# Altium footprint library dev.PcbLib: 112 footprints (part 4 of 7)
Each footprint in its own frame and in the unit in brackets; x right, y up, seen from the top. Pads: shape width x height; smd on the part's side, far side on the other; paste and mask are expansions set on the pad; w line width, h text height; cw(c..) or ccw(c..) is an arc to the next point about the centre after c.
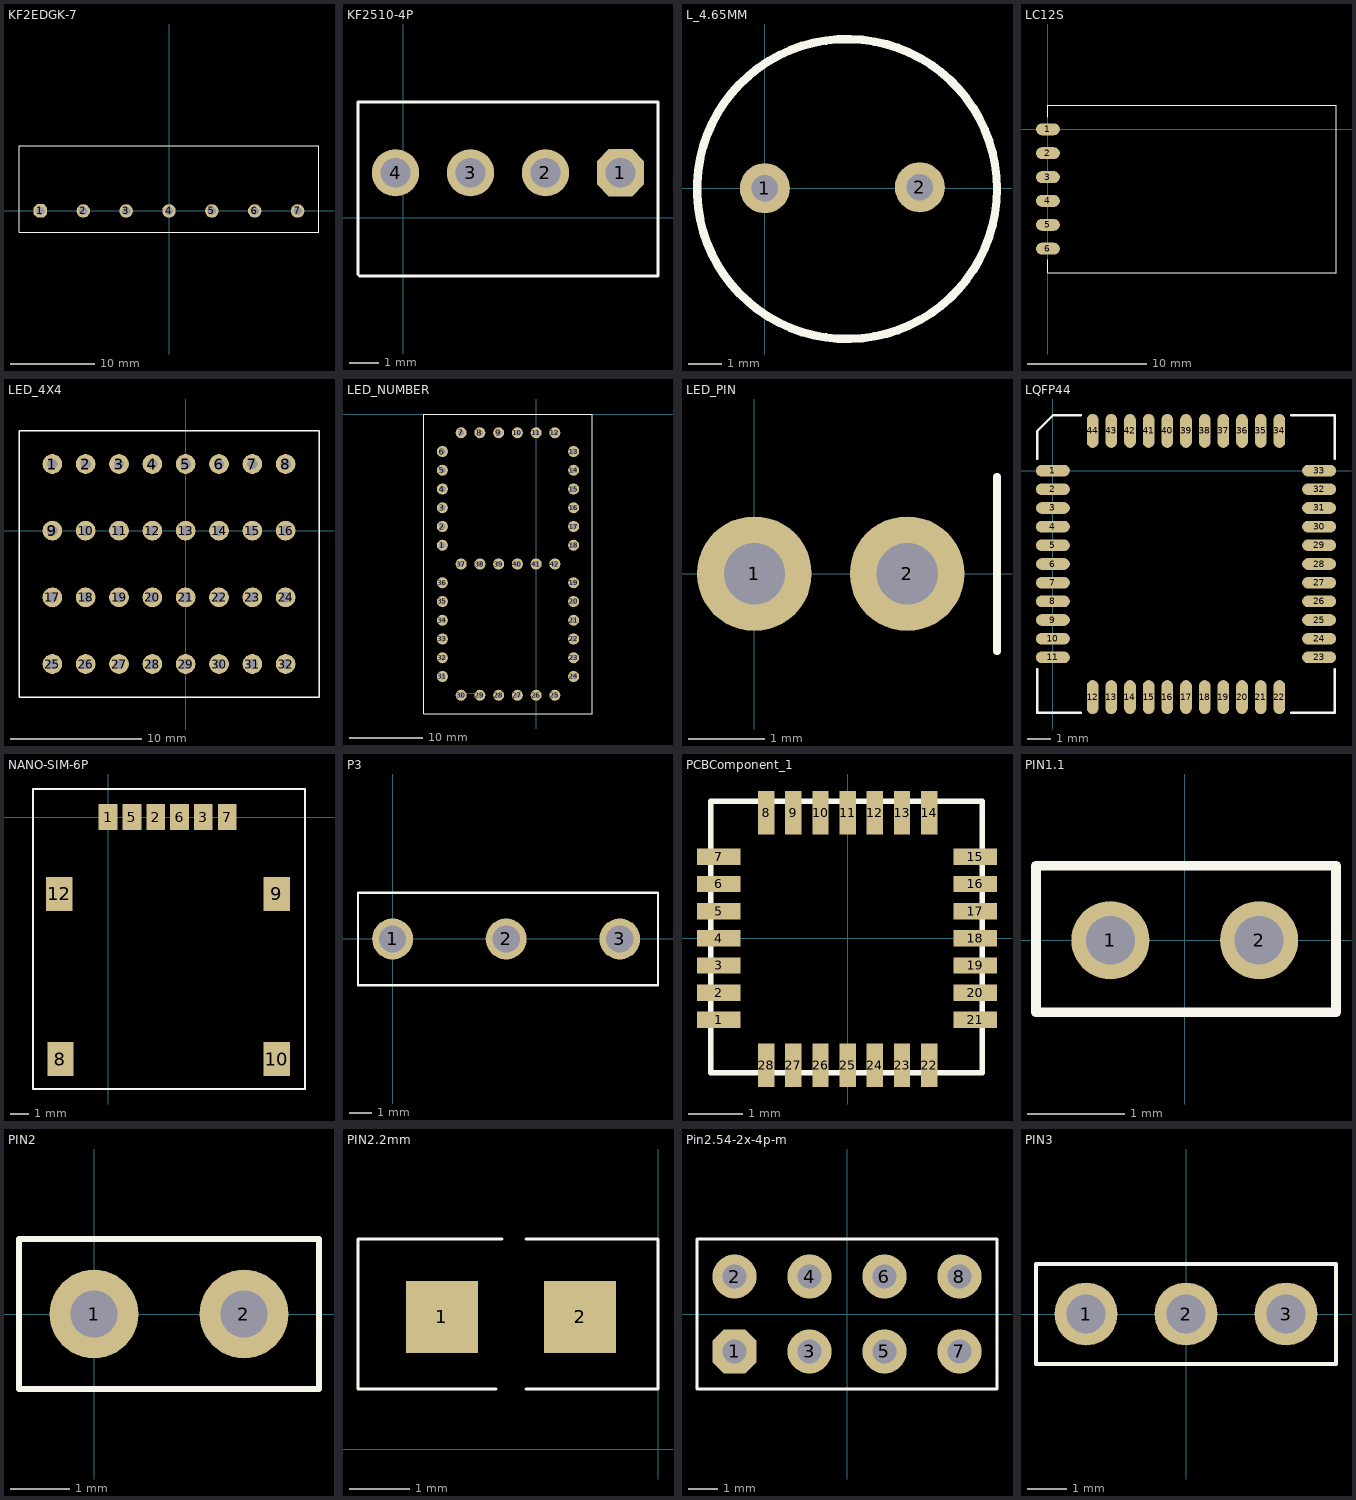
[diagram p3: the footprints below, top view; thin cyan lines are the x and y axes]

## KF2EDGK-7 [mm]
pads (7):
  oct 1.6x1.6 hole 1: 1(-15.24,0)
  round 1.6 hole 1: 2(-10.16,0) 3(-5.08,0) 4(0,0) 5(5.08,0) 6(10.16,0) 7(15.24,0)
Top Overlay:
  lines w0.1: -17.78,-2.54 17.78,-2.54 17.78,7.75 -17.78,7.75 -17.78,-2.54

## KF2510-4P [mm]
pads (4):
  oct 1.6x1.6 hole 1: 1(7.366,1.524)
  round 1.6 hole 1: 2(4.826,1.524) 3(2.286,1.524) 4(-0.254,1.524)
Top Overlay:
  lines w0.1: -1.524,-1.92 -1.524,3.924 8.636,3.924 8.636,-1.976 -1.468,-1.976

## L_4.65MM [mm]
pads (2):
  round 1.5 hole 0.8: 1(0,0) 2(4.65,0.025)
Top Overlay:
  circle w0.254: c2.464,-0.025 r4.5

## LC12S [mm]
pads (6):
  oval 2x1 smd: 1(0,0) 2(0,-2) 3(0,-4) 4(0,-6) 5(0,-8) 6(0,-10)
Top Overlay:
  lines w0.1: 0,-10.922 0,-12 24.13,-12 24.13,2 0,2 0,1.016

## LED_4X4 [mm]
pads (32):
  round 1.5 hole 0.8: 1(-10.16,5.08) 2(-7.62,5.08) 3(-5.08,5.08) 4(-2.54,5.08) 5(0,5.08) 6(2.54,5.08) 7(5.08,5.08) 8(7.62,5.08) 9(-10.16,0) 10(-7.62,0) 11(-5.08,0) 12(-2.54,0) 13(0,0) 14(2.54,0) 15(5.08,0) 16(7.62,0) 17(-10.16,-5.08) 18(-7.62,-5.08) 19(-5.08,-5.08) 20(-2.54,-5.08) 21(0,-5.08) 22(2.54,-5.08) 23(5.08,-5.08) 24(7.62,-5.08) 25(-10.16,-10.16) 26(-7.62,-10.16) 27(-5.08,-10.16) 28(-2.54,-10.16) 29(0,-10.16) 30(2.54,-10.16) 31(5.08,-10.16) 32(7.62,-10.16)
Top Overlay:
  lines w0.1: -12.7,-12.7 -12.7,7.62 10.16,7.62 10.16,-12.7 -12.7,-12.7

## LED_NUMBER [mm]
pads (42):
  round 1.5 hole 0.8: 1(-12.7,-17.78) 2(-12.7,-15.24) 3(-12.7,-12.7) 4(-12.7,-10.16) 5(-12.7,-7.62) 6(-12.7,-5.08) 7(-10.16,-2.54) 8(-7.62,-2.54) 9(-5.08,-2.54) 10(-2.54,-2.54) 11(0,-2.54) 12(2.54,-2.54) 13(5.08,-5.08) 14(5.08,-7.62) 15(5.08,-10.16) 16(5.08,-12.7) 17(5.08,-15.24) 18(5.08,-17.78) 19(5.08,-22.86) 20(5.08,-25.4) 21(5.08,-27.94) 22(5.08,-30.48) 23(5.08,-33.02) 24(5.08,-35.56) 25(2.54,-38.1) 26(0,-38.1) 27(-2.54,-38.1) 28(-5.08,-38.1) 29(-7.62,-38.1) 30(-10.16,-38.1) 31(-12.7,-35.56) 32(-12.7,-33.02) 33(-12.7,-30.48) 34(-12.7,-27.94) 35(-12.7,-25.4) 36(-12.7,-22.86) 37(-10.16,-20.32) 38(-7.62,-20.32) 39(-5.08,-20.32) 40(-2.54,-20.32) 41(0,-20.32) 42(2.54,-20.32)
Bottom Layer:
  lines w0.1: -10.033,-37.846 -7.62,-37.846
Top Overlay:
  lines w0.1: -15.24,-40.64 -15.24,0 7.62,0 7.62,-40.64 -15.24,-40.64

## LED_PIN [mm]
pads (2):
  round 1.5 hole 0.8: 1(0,0) 2(2,0)
Top Overlay:
  lines w0.1: 3.175,-1.016 3.175,1.27

## LQFP44 [mm]
pads (44):
  oval 1.45x0.5 smd: 1(0,0) 2(0,-0.8) 3(0,-1.6) 4(0,-2.4) 5(0,-3.2) 6(0,-4) 7(0,-4.8) 8(0,-5.6) 9(0,-6.4) 10(0,-7.2) 11(0,-8) 23(11.4,-8) 24(11.4,-7.2) 25(11.4,-6.4) 26(11.4,-5.6) 27(11.4,-4.8) 28(11.4,-4) 29(11.4,-3.2) 30(11.4,-2.4) 31(11.4,-1.6) 32(11.4,-0.8) 33(11.4,0)
  oval 0.5x1.45 smd: 12(1.7,-9.7) 13(2.5,-9.7) 14(3.3,-9.7) 15(4.1,-9.7) 16(4.9,-9.7) 17(5.7,-9.7) 18(6.5,-9.7) 19(7.3,-9.7) 20(8.1,-9.7) 21(8.9,-9.7) 22(9.7,-9.7) 34(9.7,1.7) 35(8.9,1.7) 36(8.1,1.7) 37(7.3,1.7) 38(6.5,1.7) 39(5.7,1.7) 40(4.9,1.7) 41(4.1,1.7) 42(3.3,1.7) 43(2.5,1.7) 44(1.7,1.7)
Top Overlay:
  lines w0.1: -0.675,-8.5 -0.675,-10.375 1.2,-10.375 ; -0.675,0.5 -0.675,1.7 0,2.375 1.2,2.375 ; 10.2,-10.375 12.075,-10.375 12.075,-8.5 ; 10.2,2.375 12.075,2.375 12.075,0.5

## NANO-SIM-6P [mm]
pads (10):
  rect 1x1.4 smd: 1(0,0) 2(2.54,0) 3(5.08,0) 5(1.27,0) 6(3.81,0) 7(6.35,0)
  rect 1.4x1.8 smd: 8(-2.54,-12.9) 9(9,-4.1) 10(9,-12.9) 12(-2.6,-4.1)
Top Overlay:
  lines w0.1: -4,-14.5 10.5,-14.5 10.5,1.5 -4,1.5 -4,-14.5

## P3 [mm]
pads (3):
  round 1.8 hole 1.2: 1(0,0) 2(5,0) 3(10,0)
Top Overlay:
  lines w0.1: -1.524,-2.032 11.684,-2.032 11.684,2.032 11.176,2.032 -1.524,2.032 -1.524,-2.032

## PCBComponent_1 [mm]
pads (28):
  rect 0.8x0.3 smd: 1(-2.374,-1.5) 2(-2.374,-1) 3(-2.374,-0.5) 4(-2.374,0) 5(-2.374,0.5) 6(-2.374,1) 7(-2.374,1.5) 15(2.348,1.5) 16(2.348,1) 17(2.348,0.5) 18(2.348,0) 19(2.348,-0.5) 20(2.348,-1) 21(2.348,-1.5)
  rect 0.3x0.8 smd: 8(-1.5,2.31) 9(-1,2.31) 10(-0.5,2.31) 11(0,2.31) 12(0.5,2.31) 13(1,2.31) 14(1.5,2.31) 22(1.5,-2.335) 23(1,-2.335) 24(0.5,-2.335) 25(0,-2.335) 26(-0.5,-2.335) 27(-1,-2.335) 28(-1.5,-2.335)
Top Overlay:
  lines w0.1: -2.524,-2.476 2.476,-2.476 2.476,2.524 -2.524,2.524 -2.524,-2.476

## PIN1.1 [mm]
pads (2):
  round 0.8 hole 0.5: 1(-0.762,0) 2(0.762,0)
Top Overlay:
  lines w0.1: -1.524,-0.737 -1.524,0.762 1.549,0.762 1.549,-0.737 -1.524,-0.737

## PIN2 [mm]
pads (2):
  round 1.5 hole 0.8: 1(0,0) 2(2.54,0)
Top Overlay:
  lines w0.1: -1.27,-1.27 -1.27,1.27 3.81,1.27 3.81,-1.27 -1.27,-1.27

## PIN2.2mm [mm]
pads (2):
  rect 1.2x1.2 smd: 1(-3.6,2.2) 2(-1.3,2.2)
Top Overlay:
  lines w0.05: -2.7,1 -5,1 -5,3.5 -2.6,3.5 ; -2.2,1 0,1 0,3.5 -2.2,3.5

## Pin2.54-2x-4p-m [mm]
pads (8):
  oct 1.5x1.5 hole 0.8: 1(-3.81,-1.27)
  round 1.5 hole 0.8: 2(-3.81,1.27) 3(-1.27,-1.27) 4(-1.27,1.27) 5(1.27,-1.27) 6(1.27,1.27) 7(3.81,-1.27) 8(3.81,1.27)
Top Overlay:
  lines w0.1: -5.08,-2.54 -5.08,2.54 5.08,2.54 5.08,-2.54 -5.08,-2.54

## PIN3 [mm]
pads (3):
  round 1.6 hole 1: 1(-2.54,0) 2(0,0) 3(2.54,0)
Top Overlay:
  lines w0.1: -3.81,-1.27 3.81,-1.27 3.81,-0.381 3.81,0.381 3.81,1.27 -3.81,1.27 -3.81,-1.27